# Altium schematic symbol library STSPIN32F0251.SchLib: 2 symbols
Pins are listed as number, name and electrical type; pins without a type are passive.

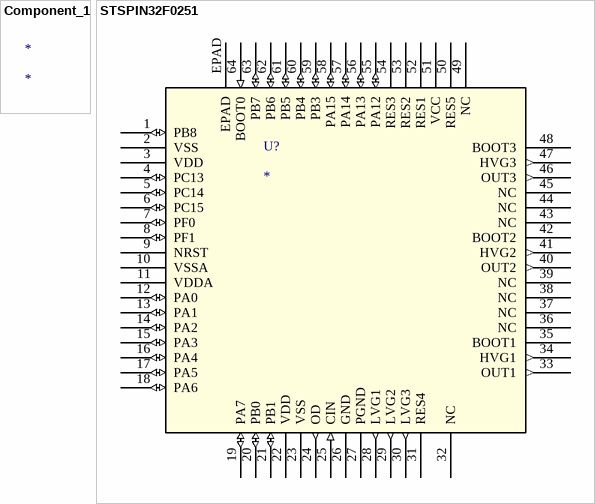
[diagram p0: symbols Component_1 to STSPIN32F0251]

## Component_1
designator *

## STSPIN32F0251
designator U?
No Description Available; Mfr_Name: STMicroelectronics; RefDes: RefDes; Type: Type
footprint TQFP64_10X10_STM-M
pins: 1 PB8 (io), 2 VSS (power), 3 VDD (power), 4 PC13 (io), 5 PC14 (io), 6 PC15 (io), 7 PF0 (io), 8 PF1 (io), 9 NRST, 10 VSSA (power), 11 VDDA (power), 12 PA0 (io), 13 PA1 (io), 14 PA2 (io), 15 PA3 (io), 16 PA4 (io), 17 PA5 (io), 18 PA6 (io), 19 PA7 (io), 20 PB0 (io), 21 PB1 (io), 22 VDD (power), 23 VSS (power), 24 OD (out), 25 CIN (in), 26 GND (power), 27 PGND (power), 28 LVG1 (out), 29 LVG2 (out), 30 LVG3 (out), 31 RES4, 32 NC, 33 OUT1 (out), 34 HVG1 (out), 35 BOOT1 (power), 36 NC, 37 NC, 38 NC, 39 NC, 40 OUT2 (out), 41 HVG2 (out), 42 BOOT2 (power), 43 NC, 44 NC, 45 NC, 46 OUT3 (out), 47 HVG3 (out), 48 BOOT3 (power), 49 NC, 50 RES5, 51 VCC (power), 52 RES1, 53 RES2, 54 RES3, 55 PA12 (io), 56 PA13 (io), 57 PA14 (io), 58 PA15 (io), 59 PB3 (io), 60 PB4 (io), 61 PB5 (io), 62 PB6 (io), 63 PB7 (io), 64 BOOT0 (in), EPAD (power)